# Altium integrated library Displays.IntLib: 9 symbols
Pins are listed as number, name and electrical type; pins without a type are passive.

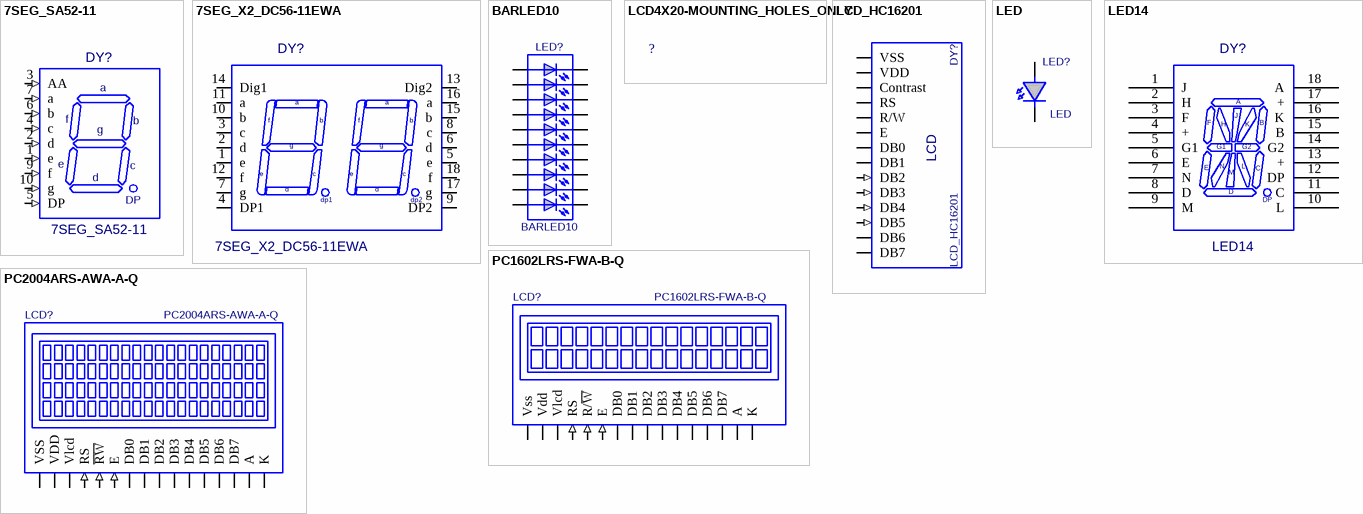
[diagram p0: symbols 7SEG_SA52-11 to PC2004ARS-AWA-A-Q]

## 7SEG_SA52-11
designator DY?
Value: *
footprint LED7
pins: 1 e (in), 2 d (in), 3 AA (in), 4 c (in), 5 DP (in), 6 b (in), 7 a (in), 8 AA (in) hidden, 9 f (in), 10 g (in)

## 7SEG_X2_DC56-11EWA
designator DY?
Value: *
footprint 7SEG_X2_DC56-11
pins: 1 e, 2 d, 3 c, 4 DP1, 5 e, 6 d, 7 g, 8 c, 9 DP2, 10 b, 11 a, 12 f, 13 Dig2, 14 Dig1, 15 b, 16 a, 17 g, 18 f
text: dp1; dp2

## BARLED10
designator LED?
Value: {Value}
footprint BARLED10
pins: 1, 2, 3, 4, 5, 6, 7, 8, 9, 10, 11, 12, 13, 14, 15, 16, 17, 18, 19, 20

## LCD4X20-MOUNTING_HOLES_ONLY
designator ?  (value not drawn)
LCD4X20-MOUNTING_HOLES_ONLY; Value: *
footprint LCD16-4X20-MOUNTHOLES_ONLY

## LCD_HC16201
designator DY?
Value: *
footprint _LCD_LCD_HC16201(Primary)
pins: Contrast (io), DB0 (io), DB1 (io), DB2 (in), DB3 (in), DB4 (in), DB5 (in), DB6 (power), DB7 (power), E (io), R/W (io), RS (io), VDD (io), VSS (io)
text: LCD

## LED
designator LED?
Value: {Value}
footprint LED0805G (LED SMD 0805 GREEN); pin to pad A>1 K>2
footprint LED0805 (LED SMD 0805); pin to pad A>1 K>2
footprint LED0805R (LED SMD 0805 RED); pin to pad A>1 K>2
footprint LED3mm (Led THT Round 3mm)
footprint LED3mmG (Led THT Round 3mm GREEN)
footprint LED3mmR (Led THT Round 3mm RED)
footprint LED3mmy (Led THT Round 3mm YELLOW)
footprint LED5mm (Led THT Round 5mm)
footprint LED5mmG (Led THT Round 5mm GREEN)
footprint LED5mmO (Led THT Round 5mm Orange)
footprint LED5mmR (Led THT Round 5mm RED)
footprint LED5mmY (Led THT Round 5mm YELLO)
footprint LED0603 (LED SMD 0603); pin to pad A>1 K>2
footprint LED1206G (SMD LED 1206 GREEN); pin to pad A>1 K>2
footprint LED1206R (SMD LED 1206 RED); pin to pad A>1 K>2
footprint LED1206Y (SMD LED 1206 YELLOW); pin to pad A>1 K>2
pins: A 1, K 2

## LED14
designator DY?
Value: *
footprint DIP18
pins: 1 J, 2 H, 3 F, 4 +, 5 G1, 6 E, 7 N, 8 D, 9 M, 10 L, 11 C, 12 DP, 13 +, 14 G2, 15 B, 16 K, 17 +, 18 A

## PC1602LRS-FWA-B-Q
designator LCD?
Value: *
footprint LCD16
pins: 1 Vss (power), 2 Vdd (power), 3 Vlcd (power), 4 RS (in), 5 R/~{W} (in), 6 E (in), 7 DB0 (io), 8 DB1 (io), 9 DB2 (io), 10 DB3 (io), 11 DB4 (io), 12 DB5 (io), 13 DB6 (io), 14 DB7 (io), 15 A (power), 16 K (power), 17 hidden, 18 hidden, 19 hidden, 20 hidden

## PC2004ARS-AWA-A-Q
designator LCD?
Value: *
footprint LCD16-4X20
pins: 1 VSS (power), 2 VDD (power), 3 Vlcd (power), 4 RS (in), 5 ~{RW} (in), 6 E (in), 7 DB0 (io), 8 DB1 (io), 9 DB2 (io), 10 DB3 (io), 11 DB4 (io), 12 DB5 (io), 13 DB6 (io), 14 DB7 (io), 15 A (power), 16 K (power)